# EAGLE library part FX6-20 (library GTA04b7)
Hirose FX6 - 0.8mm Pitch Stacking Height 5 to 9mm Connector - 20 pin
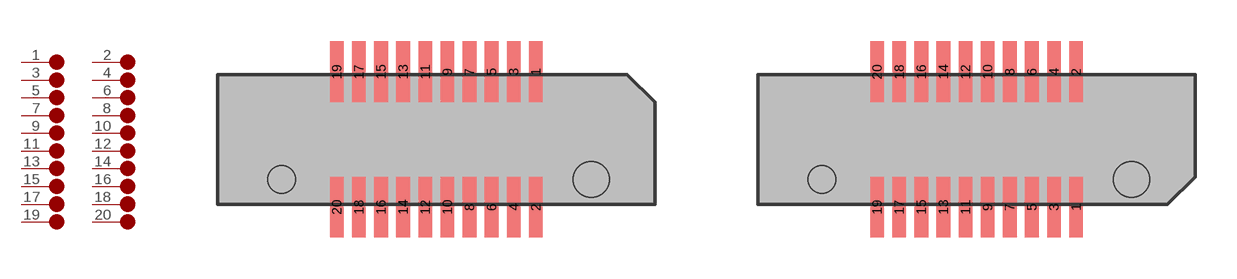
[diagram p19: symbol with the pads of FX6-20P-0.8SV; footprints FX6-20P-0.8SV, FX6-20S-0.8SV]

Designator prefix -; gates G$1=PIN G$2=PIN G$3=PIN G$4=PIN G$5=PIN G$6=PIN G$7=PIN G$8=PIN G$9=PIN G$10=PIN G$11=PIN G$12=PIN G$13=PIN G$14=PIN G$15=PIN G$16=PIN G$17=PIN G$18=PIN G$19=PIN G$20=PIN

## FX6-20P-0.8SV  [FX6-20P-0.8SV]
1  G$1:P
2  G$2:P
3  G$3:P
4  G$4:P
5  G$5:P
6  G$6:P
7  G$7:P
8  G$8:P
9  G$9:P
10  G$10:P
11  G$11:P
12  G$12:P
13  G$13:P
14  G$14:P
15  G$15:P
16  G$16:P
17  G$17:P
18  G$18:P
19  G$19:P
20  G$20:P

## FX6-20S-0.8SV  [FX6-20S-0.8SV]
Pads as for FX6-20P-0.8SV

## Footprint FX6-20P-0.8SV (pad centres in mm)
FX6 socket
smd 0.5 x 2.2: 1 3.6,2.45; 2 3.6,-2.45; 3 2.8,2.45; 4 2.8,-2.45; 5 2,2.45; 6 2,-2.45; 7 1.2,2.45; 8 1.2,-2.45; 9 0.4,2.45; 10 0.4,-2.45; 11 -0.4,2.45; 12 -0.4,-2.45; 13 -1.2,2.45; 14 -1.2,-2.45; 15 -2,2.45; 16 -2,-2.45; 17 -2.8,2.45; 18 -2.8,-2.45; 19 -3.6,2.45; 20 -3.6,-2.45
hole 1 at -5.6,-1.45
hole 1.3 at 5.6,-1.45

## Footprint FX6-20S-0.8SV (pad centres in mm)
Hirose FX6 - 0.8mm Pitch Stacking Height 5 to 9mm Connector
smd 0.5 x 2.2: 1 3.6,-2.45; 2 3.6,2.45; 3 2.8,-2.45; 4 2.8,2.45; 5 2,-2.45; 6 2,2.45; 7 1.2,-2.45; 8 1.2,2.45; 9 0.4,-2.45; 10 0.4,2.45; 11 -0.4,-2.45; 12 -0.4,2.45; 13 -1.2,-2.45; 14 -1.2,2.45; 15 -2,-2.45; 16 -2,2.45; 17 -2.8,-2.45; 18 -2.8,2.45; 19 -3.6,-2.45; 20 -3.6,2.45
hole 1 at -5.6,-1.45
hole 1.3 at 5.6,-1.45